# EAGLE library part TPL7407L_TRANSISTOR-ARRAY_N-CHANNEL_INVERTING (library PiB_transistors)
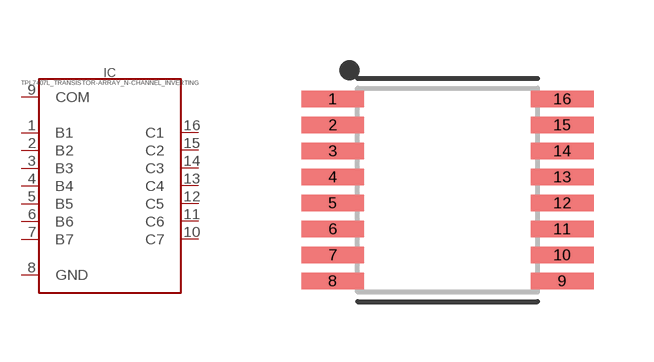
[diagram p0: symbol with the pads of SOP65P640X120-16; footprint SOP65P640X120-16]

Designator prefix IC

## TPL7407L_TRANSISTOR-ARRAY_N-CHANNEL_INVERTINGTSSOP-16 (DATASHEET: http://www.ti.com/lit/ds/symlink/tpl7407l.pdf; DIST: Digikey; DISTLINK: https://www.digikey.com/products/en?keywords=296-37285-1-ND; DISTPN: 296-37285-1-ND; MFR: Texas Instruments; MPN: TPL7407LPWR; VALUE: TPL7407L / 500mA)  [SOP65P640X120-16]
1  B1  in
2  B2  in
3  B3  in
4  B4  in
5  B5  in
6  B6  in
7  B7  in
8  GND  pwr
9  COM  pwr
10  C7  out
11  C6  out
12  C5  out
13  C4  out
14  C3  out
15  C2  out
16  C1  out

## Footprint SOP65P640X120-16 (pad centres in mm)
16-SOP, 0.65 mm pitch, 6.4 mm span, 5 X 4.4 X 1.2 mm body 16-pin SOP package with 0.65 mm pitch, 6.4 mm span with body size 5 X 4.4 X 1.2 mm
smd 1.572 x 0.407: 1 -2.872,2.275; 2 -2.872,1.625; 3 -2.872,0.975; 4 -2.872,0.325; 5 -2.872,-0.325; 6 -2.872,-0.975; 7 -2.872,-1.625; 8 -2.872,-2.275; 9 2.872,-2.275; 10 2.872,-1.625; 11 2.872,-0.975; 12 2.872,-0.325; 13 2.872,0.325; 14 2.872,0.975; 15 2.872,1.625; 16 2.872,2.275